# EAGLE library part LTC1867* (library linear-technology-3)
12-/16-Bit, 8-Channel 200ksps ADC
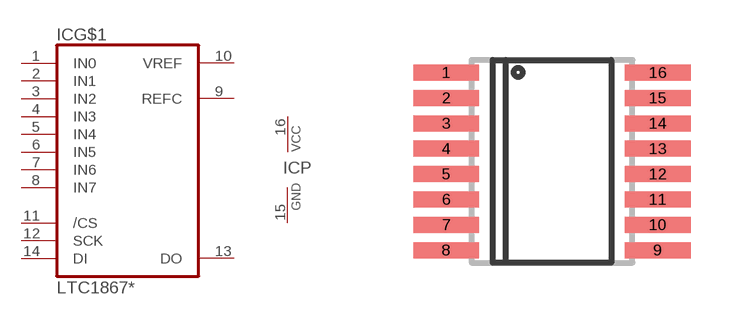
[diagram p7: symbol with the pads of SSOP16; footprint SSOP16]

Designator prefix IC; gates P=PWRN-C-G G$1=LTC1867

## LTC1867ACGN, LTC1867AIGN, LTC1867CGN, LTC1867IGN  [SSOP16]
1  G$1:IN0  in
2  G$1:IN1  in
3  G$1:IN2  in
4  G$1:IN3  in
5  G$1:IN4  in
6  G$1:IN5  in
7  G$1:IN6  in
8  G$1:IN7  in
9  G$1:REFC  pas
10  G$1:VREF  pas
11  G$1:/CS  in
12  G$1:SCK  in
13  G$1:DO  hiz
14  G$1:DI  in
15  P:GND  pwr
16  P:VCC  pwr

## Footprint SSOP16 (pad centres in mm)
smd 1.65 x 0.4: 1 -2.646,2.223; 2 -2.646,1.587; 3 -2.646,0.953; 4 -2.646,0.318; 5 -2.646,-0.318; 6 -2.646,-0.953; 7 -2.646,-1.587; 8 -2.646,-2.223; 9 2.646,-2.223; 10 2.646,-1.587; 11 2.646,-0.953; 12 2.646,-0.318; 13 2.646,0.318; 14 2.646,0.953; 15 2.646,1.587; 16 2.646,2.223